# EAGLE library part VREG_MC34673 (library Airbeam)
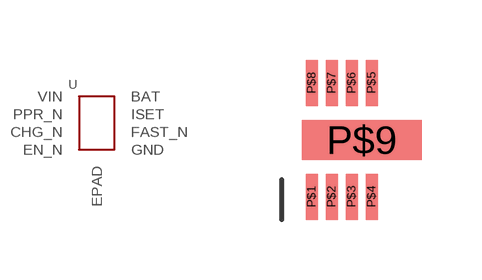
[diagram p4: symbol with the pads of UFDFN-8; footprint UFDFN-8]

Designator prefix -

## VREG_MC34673 (PARTNO: MC34673AEPR2)  [UFDFN-8]
P$1  VIN
P$2  PPR_N
P$3  CHG_N
P$4  EN_N
P$5  GND
P$6  FAST_N
P$7  ISET
P$8  BAT
P$9  EPAD

## Footprint UFDFN-8 (pad centres in mm)
smd 0.3 x 1.15: P$1 -0.75,-1.425; P$2 -0.25,-1.425; P$3 0.25,-1.425; P$4 0.75,-1.425; P$5 0.75,1.425; P$6 0.25,1.425; P$7 -0.25,1.425; P$8 -0.75,1.425
smd 3 x 1: P$9 0.5,0